# EAGLE library part LM75B* (library Parts)
基板取付型温度センサー
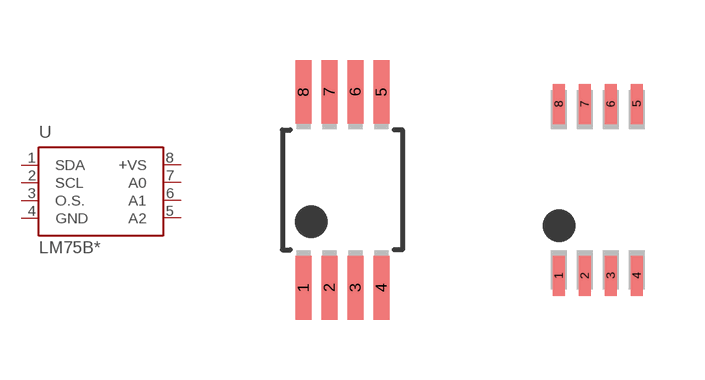
[diagram p13: symbol with the pads of SSOP8-DGK_DEV; footprints SSOP8-DGK_DEV, SSOP8-DGK]

Designator prefix U

## LM75BIMM-3_  [SSOP8-DGK_DEV]
1  SDA
2  SCL
3  O.S.
4  GND  pas
5  A2
6  A1
7  A0
8  +VS  pas

## LM75BIMM-3  [SSOP8-DGK]
Pads as for SSOP8-DGK_DEV

## Footprint SSOP8-DGK_DEV (pad centres in mm)
PLASTIC SMALL-OUTLINE PACKAGE DGK (S-PDSO-G8)
smd 0.4 x 1.6: 1 -0.975,-2.45; 2 -0.325,-2.45; 3 0.325,-2.45; 4 0.975,-2.45; 5 0.975,2.45; 6 0.325,2.45; 7 -0.325,2.45; 8 -0.975,2.45

## Footprint SSOP8-DGK (pad centres in mm)
PLASTIC SMALL-OUTLINE PACKAGE DGK (S-PDSO-G8)
smd 0.3 x 1: 1 -0.975,-2.15; 2 -0.325,-2.15; 3 0.325,-2.15; 4 0.975,-2.15; 5 0.975,2.15; 6 0.325,2.15; 7 -0.325,2.15; 8 -0.975,2.15